# EAGLE library part MCUBOARD (library EurorackModularParts)
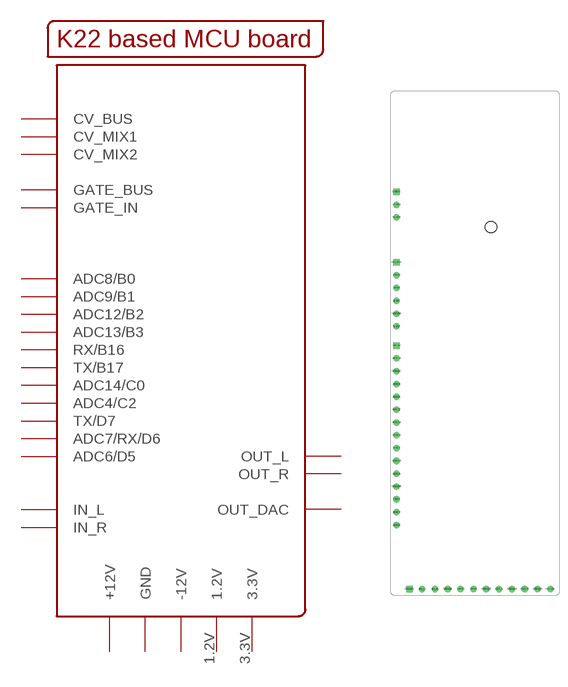
[diagram p1: symbol with the pads of MCUBASEBOARD; footprint MCUBASEBOARD]

Designator prefix -

## MCUBOARD  [MCUBASEBOARD]
1.2V  1.2V
3.3V  3.3V
+12V@1  +12V
+12V@2  +12V
-12V@1  -12V
-12V@2  -12V
ADC4  ADC4/C2
ADC6  ADC6/D5
ADC7  ADC7/RX/D6
ADC8  ADC8/B0
ADC9  ADC9/B1
ADC12  ADC12/B2
ADC13  ADC13/B3
ADC14  ADC14/C0
CV_MIX1  CV_MIX1
CV_MIX2  CV_MIX2
CVBUS  CV_BUS
GATE_BUS  GATE_BUS
GATE_IN  GATE_IN
GND@1  GND
GND@2  GND
GND@4  GND
GND@5  GND
GND@6  GND
GND@7  GND
GND@8  GND
GND@9  GND
GND_BUS  GND
IN_L  IN_L
IN_R  IN_R
OUT_DAC  OUT_DAC
OUT_L  OUT_L
OUT_R  OUT_R
RX/B16  RX/B16
TX/B17  TX/B17
TX/D7  TX/D7

## Footprint MCUBASEBOARD (pad centres in mm)
drill 0.8: 1.2V 1.27,53.34; 3.3V 1.27,58.42; +12V@1 13.97,1.27; +12V@2 1.27,63.5; -12V@1 16.51,1.27; -12V@2 1.27,60.96; ADC4 1.27,24.13; ADC6 1.27,13.97; ADC7 1.27,16.51; ADC8 1.27,41.91; ADC9 1.27,39.37; ADC12 1.27,36.83; ADC13 1.27,34.29; ADC14 1.27,26.67; CV_MIX1 1.27,77.47; CV_MIX2 1.27,74.93; GATE_IN 1.27,46.99; GND@2 11.43,1.27; GND@4 24.13,1.27; GND@5 29.21,1.27; GND@6 1.27,55.88; GND@7 1.27,44.45; GND@8 1.27,21.59; GND@9 19.05,1.27; IN_L 6.35,1.27; IN_R 8.89,1.27; OUT_DAC 31.75,1.27; OUT_L 21.59,1.27; OUT_R 26.67,1.27; RX/B16 1.27,31.75; TX/B17 1.27,29.21; TX/D7 1.27,19.05
drill 0.8 square: CVBUS 1.27,80.01; GATE_BUS 1.27,49.53; GND@1 3.81,1.27; GND_BUS 1.27,66.04
hole 2.2 at 20,73